# Altium footprint library C_EHV-C.PcbLib: 1 footprints
Each footprint in its own frame and in the unit in brackets; x right, y up, seen from the top. Pads: shape width x height; smd on the part's side, far side on the other; paste and mask are expansions set on the pad; w line width, h text height; cw(c..) or ccw(c..) is an arc to the next point about the centre after c.
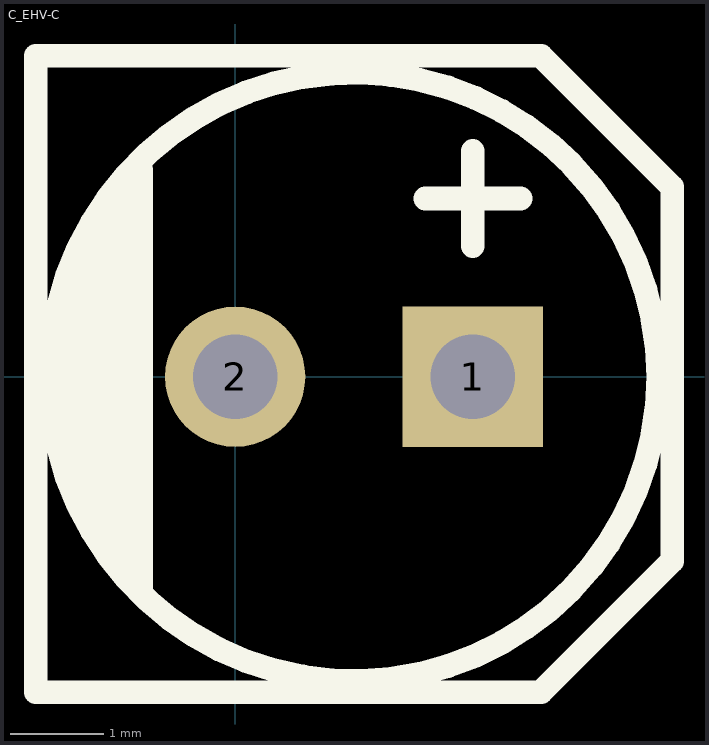
[diagram p0: the footprint, top view; thin cyan lines are the x and y axes]

## C_EHV-C [mm] "Alumnum capasitor, Vishay EHV-C series"
height 10
pads (2):
  rect 1.5x1.5 hole 0.9: 1(2.54,0)
  round 1.5 hole 0.9: 2(0,0)
Top Overlay:
  circle w0.254: c1.27,0 r3.25
  lines w0.254: 2.032,1.905 3.048,1.905 ; 2.54,1.397 2.54,2.413 ; -2.13,-3.37 3.27,-3.37 4.67,-1.97 4.67,2.03 3.27,3.43 -2.13,3.43 -2.13,-3.37
  lines w0.279: -1.778,-1.016 -1.778,1.041 ; -1.524,-1.575 -1.524,1.524 ; -1.27,-1.93 -1.27,1.905 ; -1.016,-2.286 -1.016,2.21